# Altium footprint library TBL007A_500_connectoren.PcbLib: 5 footprints
Each footprint in its own frame and in the unit in brackets; x right, y up, seen from the top. Pads: shape width x height; smd on the part's side, far side on the other; paste and mask are expansions set on the pad; w line width, h text height; cw(c..) or ccw(c..) is an arc to the next point about the centre after c.
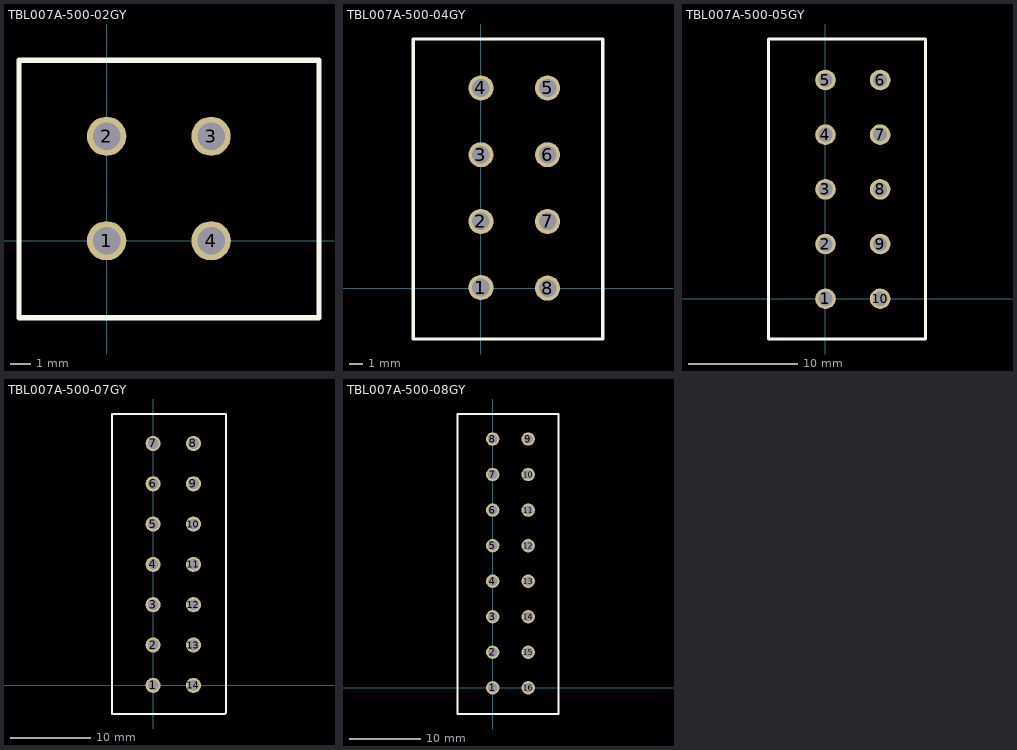
[diagram p0: the footprints below, top view; thin cyan lines are the x and y axes]

## TBL007A-500-02GY [mil]
pads (4):
  round 74 hole 52: 1(0,0) 2(0,196.85) 4(196.85,0)
  round 73.82 hole 52: 3(196.85,196.85)
Top Overlay:
  lines w10: -165,340 -165,-135 -165,-145 400,-145 400,340 0,340 -160,340
Drill Drawing:
  lines w10: 0,0 196.85,0 ; 0,196.85 196.85,196.85
3D body "CUI_DEVICES_TBL007A-500-02GY.step": height 503.94, standoff -157.48, extent -159.12,-145.16 396,335.16

## TBL007A-500-04GY [mil]
pads (8):
  round 74 hole 52: 1(0,1.85) 2(0,196.85) 3(0,393.7) 4(0,590.55) 5(196.85,590.55) 6(196.85,393.7) 7(196.85,196.85) 8(196.85,0)
Top Overlay:
  lines w10: -200,-150 -200,735 360,735 360,-150 -200,-150
Drill Drawing:
  lines w10: 0,1.85 195,1.85 ; 0,196.85 196.85,196.85 193.7,200 ; 0,400 190.55,400 ; 0,590.55 196.85,590.55 ; 196.85,393.15 196.85,393.7
3D body "CUI_DEVICES_TBL007A-500-04GY.step": height 503.94, standoff -157.48, extent -200.12,-147.01 355,727.01

## TBL007A-500-05GY [mil]
pads (10):
  round 74 hole 52: 1(0,0) 2(0,196.85) 3(0,393.7) 4(0,590.55) 5(0,787.4) 10(196.85,0)
  round 74 hole 50: 6(196.85,787.4) 7(196.85,590.55) 8(196.85,393.7) 9(196.85,196.85)
Top Overlay:
  lines w10: 360,158.75 360,626.25 ; -205,-145 -205,935 360,935 360,-145 -205,-145
Drill Drawing:
  lines w10: 0,0 196.85,0 ; 0,196.85 196.85,196.85 ; 0,393.7 196.85,393.7 ; 0,590.55 196.85,590.55 ; 0,787.4 196.85,787.4
3D body "CUI_DEVICES_TBL007A-500-05GY.step": height 503.94, standoff -157.48, extent -200,-145.86 355.12,925

## TBL007A-500-07GY [mil]
pads (14):
  round 74 hole 52: 1(0,0) 2(0,196.85) 3(0,393.7) 4(0,590.55) 5(0,787.4) 6(0,984.25) 7(0,1181.1) 8(196.85,1181.1) 9(196.85,984.25) 10(196.85,787.4) 11(196.85,590.55) 12(196.85,393.7) 13(196.85,196.85) 14(196.85,0)
Top Overlay:
  lines w10: -200,-140 350,-140 355,-135 355,410 355,1325 -200,1325 -200,-140
Drill Drawing:
  lines w10: -5,600 187.4,600 ; 0,0 196.85,0 ; 0,196.85 196.85,196.85 ; 0,393.7 196.85,393.7 ; 0,787.4 196.85,787.4 ; 0,984.25 196.85,984.25 ; 0,1181.1 196.85,1181.1 ; 5,205 5,201.85 10,196.85
  lines w15: -10,1181.1 0,1181.1
3D body "CUI_DEVICES_TBL007A-500-07GY.step": height 503.94, standoff -157.48, extent -197.56,-139.57 357.56,1325

## TBL007A-500-08GY [mil]
pads (16):
  round 74 hole 52: 1(0,0) 2(0,196.85) 3(0,393.7) 4(0,590.55) 5(0,787.4) 6(0,984.25) 7(0,1181.1) 8(0,1377.95) 9(196.85,1377.95) 10(196.85,1181.1) 11(196.85,984.25) 12(196.85,787.4) 13(196.85,590.55) 14(196.85,393.7) 15(196.85,196.85) 16(196.85,0)
Top Overlay:
  lines w10: -195,-145 365,-145 365,1516.41 214.84,1516.41 -42.66,1516.41 -195,1516.41 -195,-145
Drill Drawing:
  lines w10: -10,790 5,790 ; 0,0 196.85,0 ; 0,196.85 196.85,196.85 ; 0,393.7 196.85,393.7 ; 0,590.55 196.85,590.55 ; 0,787.4 196.85,787.4 ; 0,984.25 196.85,984.25 ; 0,1181.1 196.85,1181.1 ; 0,1377.95 196.85,1377.95 ; 5,975 5,979.25 10,984.25 ; 202.4,787.4 205,790 220,790
3D body "CUI_DEVICES_TBL007A-500-08GY.step": height 503.94, standoff -157.48, extent -192.56,-145 362.56,1516.41
3D body: height 10, standoff -1622.44, extent 70,480 70,480
3D body: height 10, standoff -1622.44, extent 90,-65 90,-65